# Altium footprint library JMPKG.PcbLib: 337 footprints (part 8 of 22)
Each footprint in its own frame and in the unit in brackets; x right, y up, seen from the top. Pads: shape width x height; smd on the part's side, far side on the other; paste and mask are expansions set on the pad; w line width, h text height; cw(c..) or ccw(c..) is an arc to the next point about the centre after c.
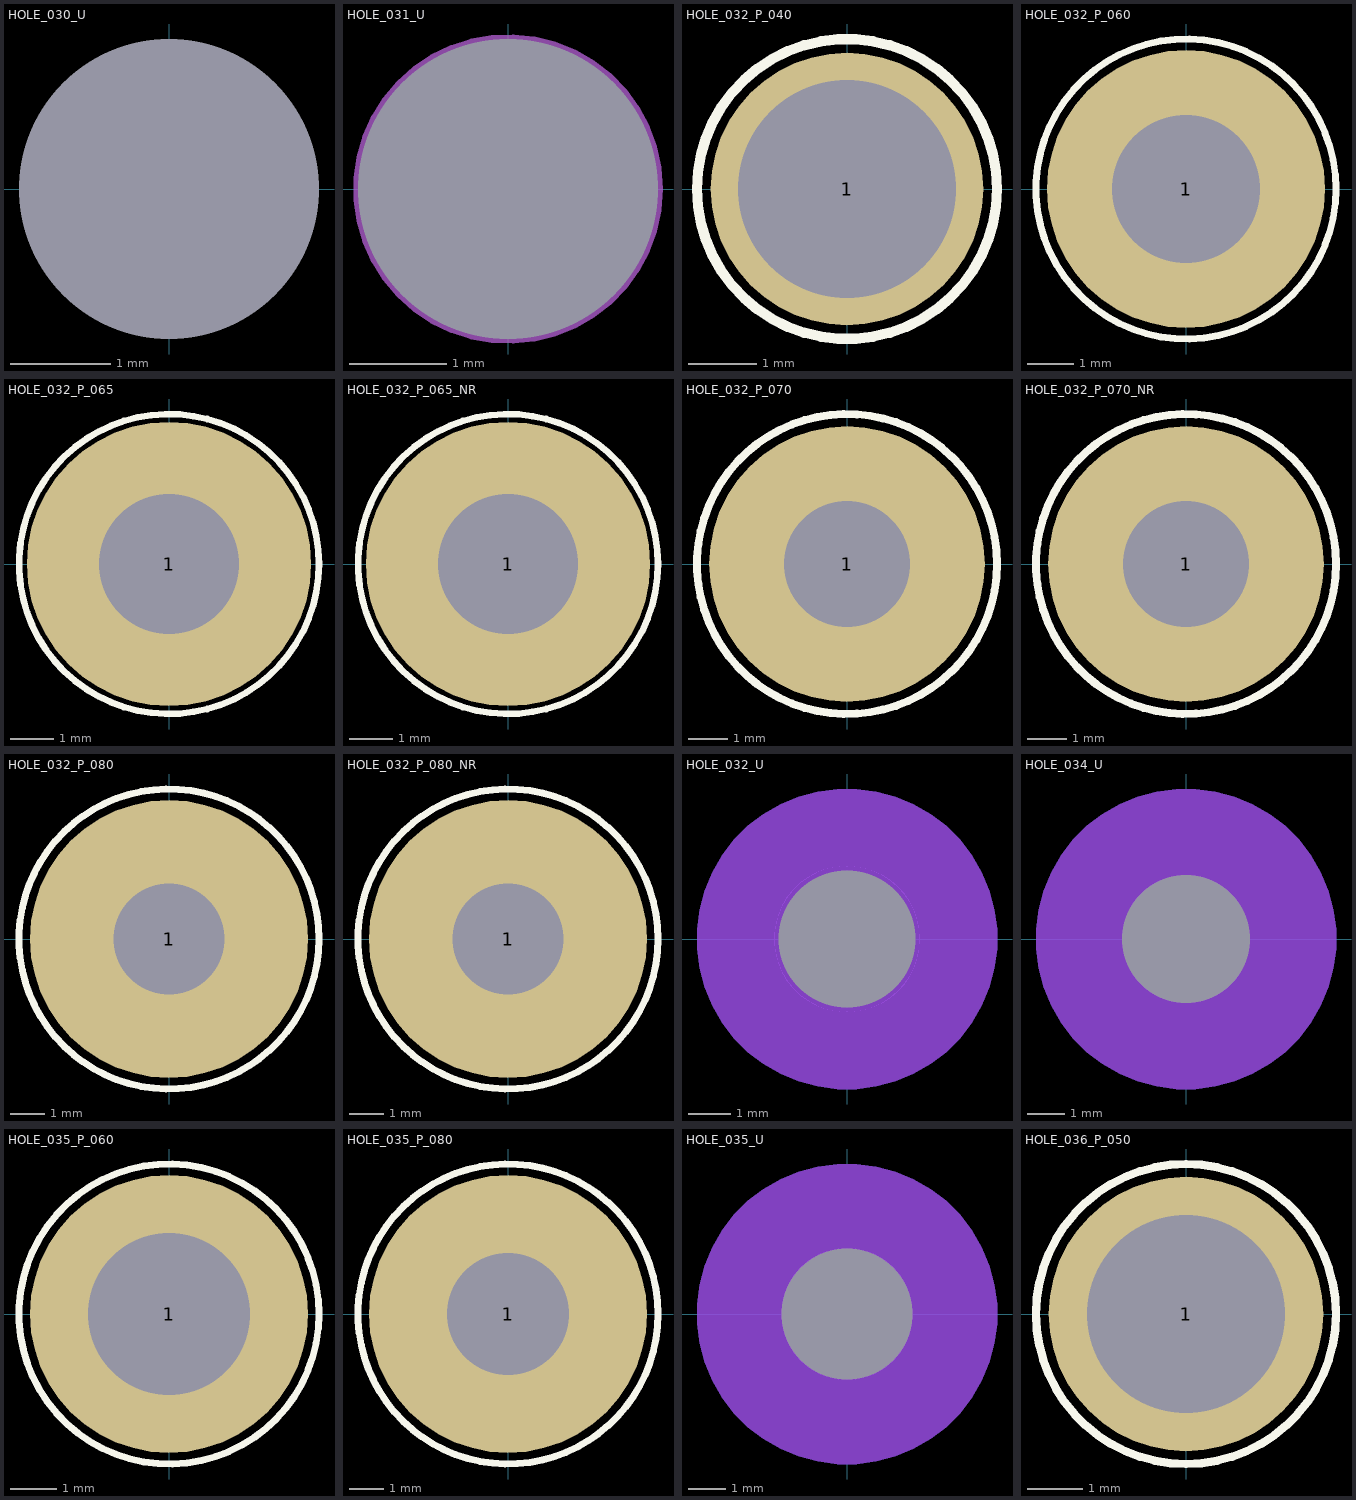
[diagram p7: the footprints below, top view; thin cyan lines are the x and y axes]

## HOLE_030_U [mm]
pads (1):
  round 0 hole 3 unplated: 1(0,0)
Drill Drawing:
  circle w0.01: c0,0 r1.5

## HOLE_031_U [mm]
pads (1):
  round 0 hole 3.1 unplated: 1(0,0)
Mechanical 15:
  circle w0.1: c0,0 r1.55
Mechanical 16:
  circle w0.1: c0,0 r1.55

## HOLE_032_P_040 [mm]
pads (1):
  round 4 hole 3.2 mask+0.05: 1(0,0)
Top Overlay:
  circle w0.15: c0,0 r2.2
Drill Drawing:
  circle w0.01: c0,0 r1.6
Multi-Layer:
  text "Value" at -1.007,-1.511 h0.6
Mechanical 20:
  circle w0.01: c0,0 r2.2

## HOLE_032_P_060 [mm]
pads (1):
  round 6 hole 3.2 mask+0.05: 1(0,0)
Top Overlay:
  circle w0.15: c0,0 r3.238
Mechanical 15:
  circle w0.01: c0,0 r1.6
Mechanical 16:
  circle w0.01: c0,0 r1.6
Multi-Layer:
  text "Value" at -1.007,-1.511 h0.6
Mechanical 20:
  circle w0.01: c0,0 r3.238

## HOLE_032_P_065 [mm]
pads (1):
  round 6.5 hole 3.2 mask+0.05: 1(0,0)
Top Overlay:
  circle w0.15: c0,0 r3.429
Drill Drawing:
  circle w0.01: c0,0 r1.6
Mechanical 20:
  circle w0.01: c0,0 r3.43

## HOLE_032_P_065_NR [mm]
pads (1):
  round 6.5 hole 3.2 mask+0.05: 1(0,0)
Top Overlay:
  circle w0.15: c0,0 r3.429
Drill Drawing:
  circle w0.01: c0,0 r1.6
Multi-Layer:
  text "Value" at -1.007,-1.13 h0.6
Mechanical 20:
  circle w0.01: c0,0 r3.43

## HOLE_032_P_070 [mm]
pads (1):
  round 7 hole 3.2 mask+0.05: 1(0,0)
Top Overlay:
  circle w0.2: c0,0 r3.81
Drill Drawing:
  circle w0.01: c0,0 r1.6
Multi-Layer:
  text "Value" at -1.081,-1.77 h0.75
Mechanical 20:
  circle w0.01: c0,0 r3.81

## HOLE_032_P_070_NR [mm]
pads (1):
  round 7 hole 3.2 mask+0.05: 1(0,0)
Top Overlay:
  circle w0.2: c0,0 r3.81
Drill Drawing:
  circle w0.01: c0,0 r1.6
Multi-Layer:
  text "Value" at -1.081,-1.77 h0.75
Mechanical 20:
  circle w0.01: c0,0 r3.81

## HOLE_032_P_080 [mm]
pads (1):
  round 8 hole 3.2 mask+0.05: 1(0,0)
Top Overlay:
  circle w0.2: c0,0 r4.318
Drill Drawing:
  circle w0.01: c0,0 r1.6
Multi-Layer:
  text "Value" at -1.081,-1.77 h0.75
Mechanical 20:
  circle w0.01: c0,0 r4.318

## HOLE_032_P_080_NR [mm]
pads (1):
  round 8 hole 3.2 mask+0.05: 1(0,0)
Top Overlay:
  circle w0.2: c0,0 r4.318
Drill Drawing:
  circle w0.01: c0,0 r1.6
Multi-Layer:
  text "Value" at -1.254,-1.205 h0.75
Mechanical 20:
  circle w0.01: c0,0 r4.318

## HOLE_032_U [mm]
pads (1):
  round 0 hole 3.2 unplated: 1(0,0)
L2-Botom Layer keep-out:
  region: 3.5,0 3.5,0.229 3.44,0.684 3.321,1.127 3.146,1.551 2.916,1.949 2.637,2.313 2.313,2.637 1.949,2.916 1.551,3.146 1.127,3.321 0.684,3.44 0.229,3.5 0,3.5 -0.229,3.5 -0.684,3.44 -1.127,3.321 -1.551,3.146 -1.949,2.916 -2.313,2.637 -2.637,2.313 -2.916,1.949 -3.146,1.551 -3.321,1.127 -3.44,0.684 -3.5,0.229 -3.5,0 -3.5,-0.229 -3.44,-0.684 -3.321,-1.127 -3.146,-1.551 -2.916,-1.949 -2.637,-2.313 -2.313,-2.637 -1.949,-2.916 -1.551,-3.146 -1.127,-3.321 -0.684,-3.44 -0.229,-3.5 0,-3.5 0.229,-3.5 0.684,-3.44 1.127,-3.321 1.551,-3.146 1.949,-2.916 2.313,-2.637 2.637,-2.313 2.916,-1.949 3.146,-1.551 3.321,-1.127 3.44,-0.684 3.5,-0.229
Drill Drawing:
  circle w0.01: c0,0 r1.6
Mechanical 20:
  circle w0.01: c0,0 r1.7

## HOLE_034_U [mm]
pads (1):
  round 0 hole 3.4 unplated: 1(0,0)
L2-Botom Layer keep-out:
  region: 4,0 4,0.262 3.932,0.782 3.796,1.289 3.595,1.773 3.333,2.227 3.014,2.643 2.643,3.014 2.227,3.333 1.773,3.595 1.289,3.796 0.782,3.932 0.262,4 0,4 -0.262,4 -0.782,3.932 -1.289,3.796 -1.773,3.595 -2.227,3.333 -2.643,3.014 -3.014,2.643 -3.333,2.227 -3.595,1.773 -3.796,1.289 -3.932,0.782 -4,0.262 -4,0 -4,-0.262 -3.932,-0.782 -3.796,-1.289 -3.595,-1.773 -3.333,-2.227 -3.014,-2.643 -2.643,-3.014 -2.227,-3.333 -1.773,-3.595 -1.289,-3.796 -0.782,-3.932 -0.262,-4 0,-4 0.262,-4 0.782,-3.932 1.289,-3.796 1.773,-3.595 2.227,-3.333 2.643,-3.014 3.014,-2.643 3.333,-2.227 3.595,-1.773 3.796,-1.289 3.932,-0.782 4,-0.262
Mechanical 15:
  circle w0.01: c0,0 r1.7
Mechanical 16:
  circle w0.01: c0,0 r1.7

## HOLE_035_P_060 [mm]
pads (1):
  round 6 hole 3.5 mask+0.05: 1(0,0)
Top Overlay:
  circle w0.15: c0,0 r3.238
Mechanical 15:
  circle w0.01: c0,0 r1.75
Mechanical 16:
  circle w0.01: c0,0 r1.75
Multi-Layer:
  text "Value" at -1.007,-1.511 h0.6
Mechanical 20:
  circle w0.01: c0,0 r3.238

## HOLE_035_P_080 [mm]
pads (1):
  round 8 hole 3.5 mask+0.05: 1(0,0)
Top Overlay:
  circle w0.2: c0,0 r4.318
Drill Drawing:
  circle w0.01: c0,0 r1.75
Multi-Layer:
  text "Value" at -1.254,-1.205 h0.75
Mechanical 20:
  circle w0.01: c0,0 r4.318

## HOLE_035_U [mm]
pads (1):
  round 0 hole 3.5 unplated: 1(0,0)
L1-Top Layer keep-out:
  region: 4,0 4,0.262 3.932,0.782 3.796,1.289 3.595,1.773 3.333,2.227 3.014,2.643 2.643,3.014 2.227,3.333 1.773,3.595 1.289,3.796 0.782,3.932 0.262,4 0,4 -0.262,4 -0.782,3.932 -1.289,3.796 -1.773,3.595 -2.227,3.333 -2.643,3.014 -3.014,2.643 -3.333,2.227 -3.595,1.773 -3.796,1.289 -3.932,0.782 -4,0.262 -4,0 -4,-0.262 -3.932,-0.782 -3.796,-1.289 -3.595,-1.773 -3.333,-2.227 -3.014,-2.643 -2.643,-3.014 -2.227,-3.333 -1.773,-3.595 -1.289,-3.796 -0.782,-3.932 -0.262,-4 0,-4 0.262,-4 0.782,-3.932 1.289,-3.796 1.773,-3.595 2.227,-3.333 2.643,-3.014 3.014,-2.643 3.333,-2.227 3.595,-1.773 3.796,-1.289 3.932,-0.782 4,-0.262
L2-Botom Layer keep-out:
  region: 4,0 4,0.262 3.932,0.782 3.796,1.289 3.595,1.773 3.333,2.227 3.014,2.643 2.643,3.014 2.227,3.333 1.773,3.595 1.289,3.796 0.782,3.932 0.262,4 0,4 -0.262,4 -0.782,3.932 -1.289,3.796 -1.773,3.595 -2.227,3.333 -2.643,3.014 -3.014,2.643 -3.333,2.227 -3.595,1.773 -3.796,1.289 -3.932,0.782 -4,0.262 -4,0 -4,-0.262 -3.932,-0.782 -3.796,-1.289 -3.595,-1.773 -3.333,-2.227 -3.014,-2.643 -2.643,-3.014 -2.227,-3.333 -1.773,-3.595 -1.289,-3.796 -0.782,-3.932 -0.262,-4 0,-4 0.262,-4 0.782,-3.932 1.289,-3.796 1.773,-3.595 2.227,-3.333 2.643,-3.014 3.014,-2.643 3.333,-2.227 3.595,-1.773 3.796,-1.289 3.932,-0.782 4,-0.262
Mechanical 15:
  circle w0.01: c0,0 r1.75
Mechanical 16:
  circle w0.01: c0,0 r1.75

## HOLE_036_P_050 [mm]
pads (1):
  round 5 hole 3.6 mask+0.05: 1(0,0)
Top Overlay:
  circle w0.15: c0,0 r2.73
Drill Drawing:
  circle w0.01: c0,0 r1.8
Multi-Layer:
  text "Value" at -0.988,-1.327 h0.6
Mechanical 20:
  circle w0.01: c0,0 r2.73